# EAGLE library part UCC28740DR (library SamacSys_Parts)
Constant-Voltage, Constant-Current Flyback Controller Using Opto-Coupler Feedback Source: Datasheet <http://www.ti.com/lit/gpn/ucc28740>
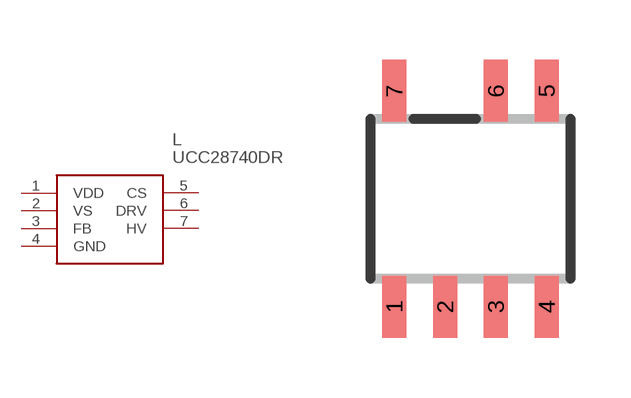
[diagram p1: symbol with the pads of D(R-PDSO-G7); footprint D(R-PDSO-G7)]

Designator prefix L

## UCC28740DR (DESCRIPTION: Constant-Voltage, Constant-Current Flyback Controller Using Opto-Coupler Feedback; HEIGHT: mm; MANUFACTURER_NAME: Texas Instruments; MANUFACTURER_PART_NUMBER: UCC28740DR; MOUSER_PART_NUMBER: 595-UCC28740DR; MOUSER_PRICE-STOCK: https://www.mouser.com/Search/Refine.aspx?Keyword=595-UCC28740DR)  [D(R-PDSO-G7)]
1  VDD
2  VS
3  FB
4  GND
5  CS
6  DRV
7  HV

## Footprint D(R-PDSO-G7) (pad centres in mm)
D(R-PDSO-G7)
smd 0.6 x 1.55: 1 -1.905,-2.7; 2 -0.635,-2.7; 3 0.635,-2.7; 4 1.905,-2.7; 5 1.905,2.7; 6 0.635,2.7; 7 -1.905,2.7